# Altium schematic symbol library SLF0745.Schlib: 1 symbol
Pins are listed as number, name and electrical type; pins without a type are passive.

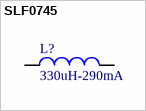
[diagram p0: symbol SLF0745]

## SLF0745
designator L?, comment 330uH-290mA
Power Inductor
pins: 1, 2